# EAGLE library part NFC_PN532_ELECHOUSE_SPI (library Z)
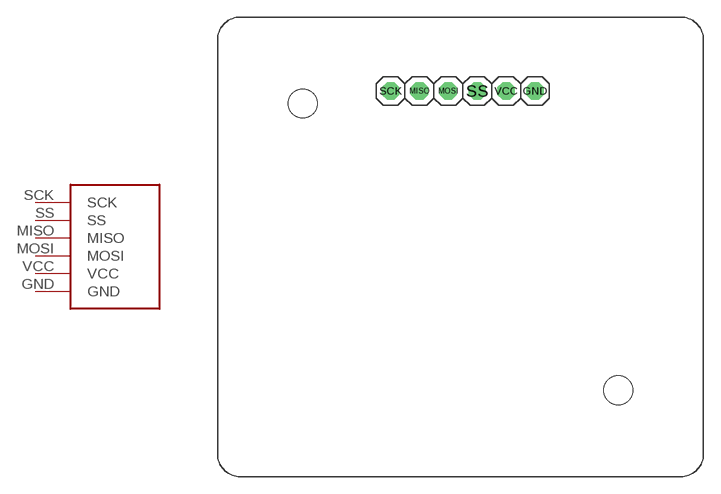
[diagram p0: symbol with the pads of NFC_PN532_ELECHOUSE_SPI; footprint NFC_PN532_ELECHOUSE_SPI]

Designator prefix -

## NFC_PN532_ELECHOUSE_SPI  [NFC_PN532_ELECHOUSE_SPI]
GND  GND
MISO  MISO
MOSI  MOSI
SCK  SCK
SS  SS
VCC  VCC

## Footprint NFC_PN532_ELECHOUSE_SPI (pad centres in mm)
PIN HEADER
drill 1.016 octagon: GND 6.55,13.7; MISO -3.61,13.7; MOSI -1.07,13.7; SCK -6.14,13.7; SS 1.47,13.7; VCC 4.01,13.7
hole 2.54 at 13.85,-12.6
hole 2.54 at -13.85,12.6